# Altium schematic symbol library My_Forecaster.SchLib: 5 symbols
Pins are listed as number, name and electrical type; pins without a type are passive.

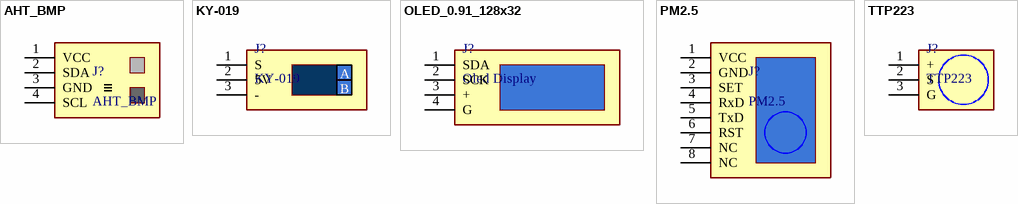
[diagram p0: symbols AHT_BMP to TTP223]

## AHT_BMP
designator J?
BMP280+AHT20. Temp+Humidity+Pressure.
footprint BMP280_AHT20
pins: 1 VCC, 2 SDA, 3 GND, 4 SCL

## KY-019
designator J?
High-Side Relay
footprint KY-019 (Relay, High-Side)
pins: 1 S, 2 5V, 3 -
text: A; B

## OLED_0.91_128x32
designator J?, comment Oled Display
footprint OLED_0.91_128x32
pins: 1 SDA, 2 SCK, 3 +, 4 G

## PM2.5
designator J?
Dust Sensor
footprint PM2.5
pins: 1 VCC, 2 GND, 3 SET, 4 RxD, 5 TxD, 6 RST, 7 NC, 8 NC

## TTP223
designator J?
Touch Sensor
footprint TTP223_Sensor
pins: 1 +, 2 S, 3 G